# EAGLE library part SRLATCH (library ngspice)
The digital sr-type latch is a one-bit, level-sensitive storage element which will output the value dictated by the state of the s and r pins whenever the enable input line is high (ONE). This value is stored (i.e., held on the out line) whenever the enable line is low (ZERO). The particular value chosen is as shown below: s=ZERO, r=ZERO => out=current value (i.e., not change in output) s=ZERO, r=ONE => out=ZERO s=ONE, r=ZERO => out=ONE s=ONE, r=ONE => out=UNKNOWN Asynchronous set and reset signals exist, and each of the four methods of changing the stored output of the d srlatch (i.e., s/r combination changing with enable=ONE, enable changing to ONE from ZERO with an output-changing combination of s and r, raising set and raising reset) have separate delays associated with them. You may also specify separate rise and fall delay values that are added to those specified for the input lines; these allow for more faithful reproduction of the output characteristics of different IC fabrication technologies. Note that any UNKNOWN inputs other than on the s and r lines when enable=ZERO immediately cause the output to go UNKNOWN.
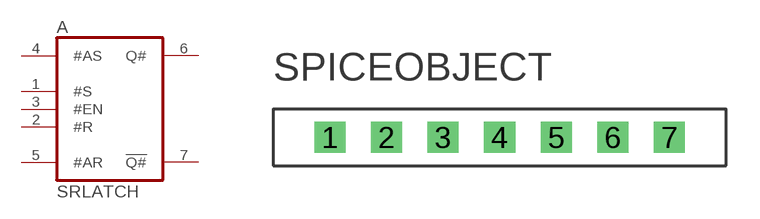
[diagram p4: symbol with the pads of SPICE7; footprint SPICE7]

Designator prefix A

## SRLATCH (SPICE_MODEL: .model >VALUE d_srlatch (sr_delay enable_delay set_delay reset_delay ic sr_load enable_load set_load reset_load rise_delay fall_delay); SP_ENABLE_DELAY: 1ns; SP_ENABLE_LOAD: 1pF; SP_FALL_DELAY: 1ns; SP_IC: 0; SP_RESET_DELAY: 1ns; SP_RESET_LOAD: 1pF; SP_RISE_DELAY: 1ns; SP_SET_DELAY: 1ns; SP_SET_LOAD: 1pF; SP_SR_DELAY: 1ns; SP_SR_LOAD: 1pF)  [SPICE7]
1  #S  in
2  #R  in
3  #EN  in
4  #AS  in
5  #AR  in
6  Q#  out
7  !Q#  out

## Footprint SPICE7 (pad centres in mm)
drill 0.813 pad 1.397 square: 1 -7.62,0; 2 -5.08,0; 3 -2.54,0; 4 0,0; 5 2.54,0; 6 5.08,0; 7 7.62,0